# Altium schematic symbol library TPS54531DDA.Schlib: 1 symbol
Pins are listed as number, name and electrical type; pins without a type are passive.

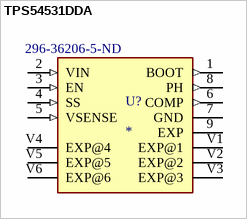
[diagram p0: symbol TPS54531DDA]

## TPS54531DDA
designator U?  Supplier Part Number 1: 296-36206-5-ND
Buck Switching Regulator IC Positive Adjustable 0.8V 1 Output 5A 8-PowerSOIC _0.154, 3.90mm Width_; MF: Texas Instruments; MP: TPS54531DDA; Value: *; Price: None; Package: SO-8 Texas Instruments; SnapEDA_Link: https://www.snapeda.com/parts/TPS54531DDA/Texas%20Instruments/view-part/289535/?ref=snap; Supplier 1: Digi-Key
footprint 8-PowerSOIC
pins: 1 BOOT (out), 2 VIN (in), 3 EN (in), 4 SS (in), 5 VSENSE (in), 6 COMP (out), 7 GND (power), 8 PH (out), 9 EXP (power), V1 EXP@1 (power), V2 EXP@2 (power), V3 EXP@3 (power), V4 EXP@4 (power), V5 EXP@5 (power), V6 EXP@6 (power)